# Altium schematic symbol library Inductor CD43YP0403-6R8M.Schlib: 1 symbol
Pins are listed as number, name and electrical type; pins without a type are passive.

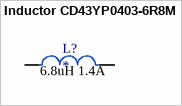
[diagram p0: symbol Inductor CD43YP0403-6R8M]

## Inductor CD43YP0403-6R8M
designator L?  value 6.8uH 1.4A
6.8UH ±20% 1.41A 117MΩ SMD,4.5X4.0X3.2MM POWER INDUCTORS ROHS; LCSC Part #: C492277; JLCPCB Part Type: Extended; ComponentLink1Description: LCSC - YJYCOIN CD43YP0403-6R8M; ComponentLink1URL: https://lcsc.com/product-detail/Power-Inductors_YJYCOIN-CD43YP0403-6R8M_C492277.html/?href=jlc-SMT
footprint SMD,4.5x4.0x3.2mm (Inductor)
pins: 1, 2